# Altium schematic symbol library X1321WVS-2x07J-C40D53.SchLib: 1 symbol
Pins are listed as number, name and electrical type; pins without a type are passive.

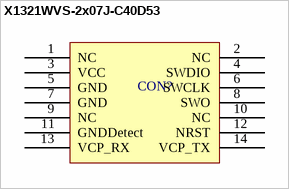
[diagram p0: symbol X1321WVS-2x07J-C40D53]

## X1321WVS-2x07J-C40D53
designator CON?  (value not drawn)
footprint X1321WVS-2x07J-C40D53
pins: 1 NC, 2 NC, 3 VCC, 4 SWDIO, 5 GND, 6 SWCLK, 7 GND, 8 SWO, 9 NC, 10 NC, 11 GNDDetect, 12 NRST, 13 VCP_RX, 14 VCP_TX